# Altium schematic symbol library Oscillators.SchLib: 1 symbol
Pins are listed as number, name and electrical type; pins without a type are passive.

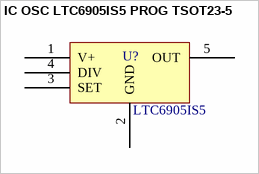
[diagram p0: symbol IC OSC LTC6905IS5 PROG TSOT23-5]

## IC OSC LTC6905IS5 PROG TSOT23-5
designator U?  value LTC6905IS5  (hidden comment: *)
Oscillator, Silicon IC 17MHz ~ 170MHz TSOT-23-5; PartNumber1: LTC6905IS5#TRMPBF
footprint SOT23-5
pins: 1 V+, 2 GND (power), 3 SET, 4 DIV, 5 OUT